# Altium schematic symbol library FastServo.SchLib: 1 symbol
Pins are listed as number, name and electrical type; pins without a type are passive.

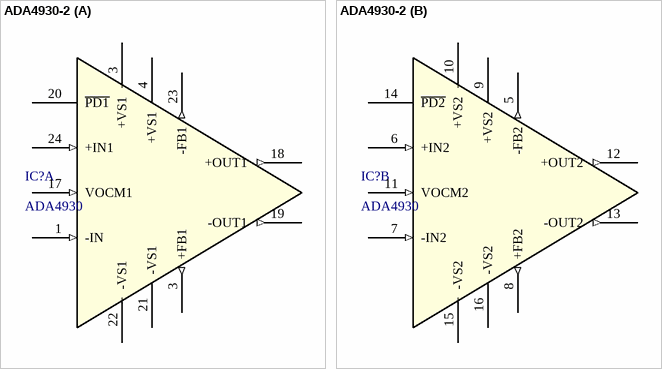
[diagram p0: symbol ADA4930-2]

## ADA4930-2
designator IC?, comment ADA4930
part A pins: 1 -IN (in), 3 +VS1 (power), 3 +FB1 (out), 4 +VS1 (power), 17 VOCM1 (in), 18 +OUT1 (out), 19 -OUT1 (out), 20 ~{PD1}, 21 -VS1 (power), 22 -VS1 (power), 23 -FB1 (out), 24 +IN1 (in)
part B pins: 5 -FB2 (out), 6 +IN2 (in), 7 -IN2 (in), 8 +FB2 (out), 9 +VS2 (power), 10 +VS2 (power), 11 VOCM2 (in), 12 +OUT2 (out), 13 -OUT2 (out), 14 ~{PD2}, 15 -VS2 (power), 16 -VS2 (power)